# Altium footprint library cftkb.PcbLib: 28 footprints (part 1 of 2)
Each footprint in its own frame and in the unit in brackets; x right, y up, seen from the top. Pads: shape width x height; smd on the part's side, far side on the other; paste and mask are expansions set on the pad; w line width, h text height; cw(c..) or ccw(c..) is an arc to the next point about the centre after c.
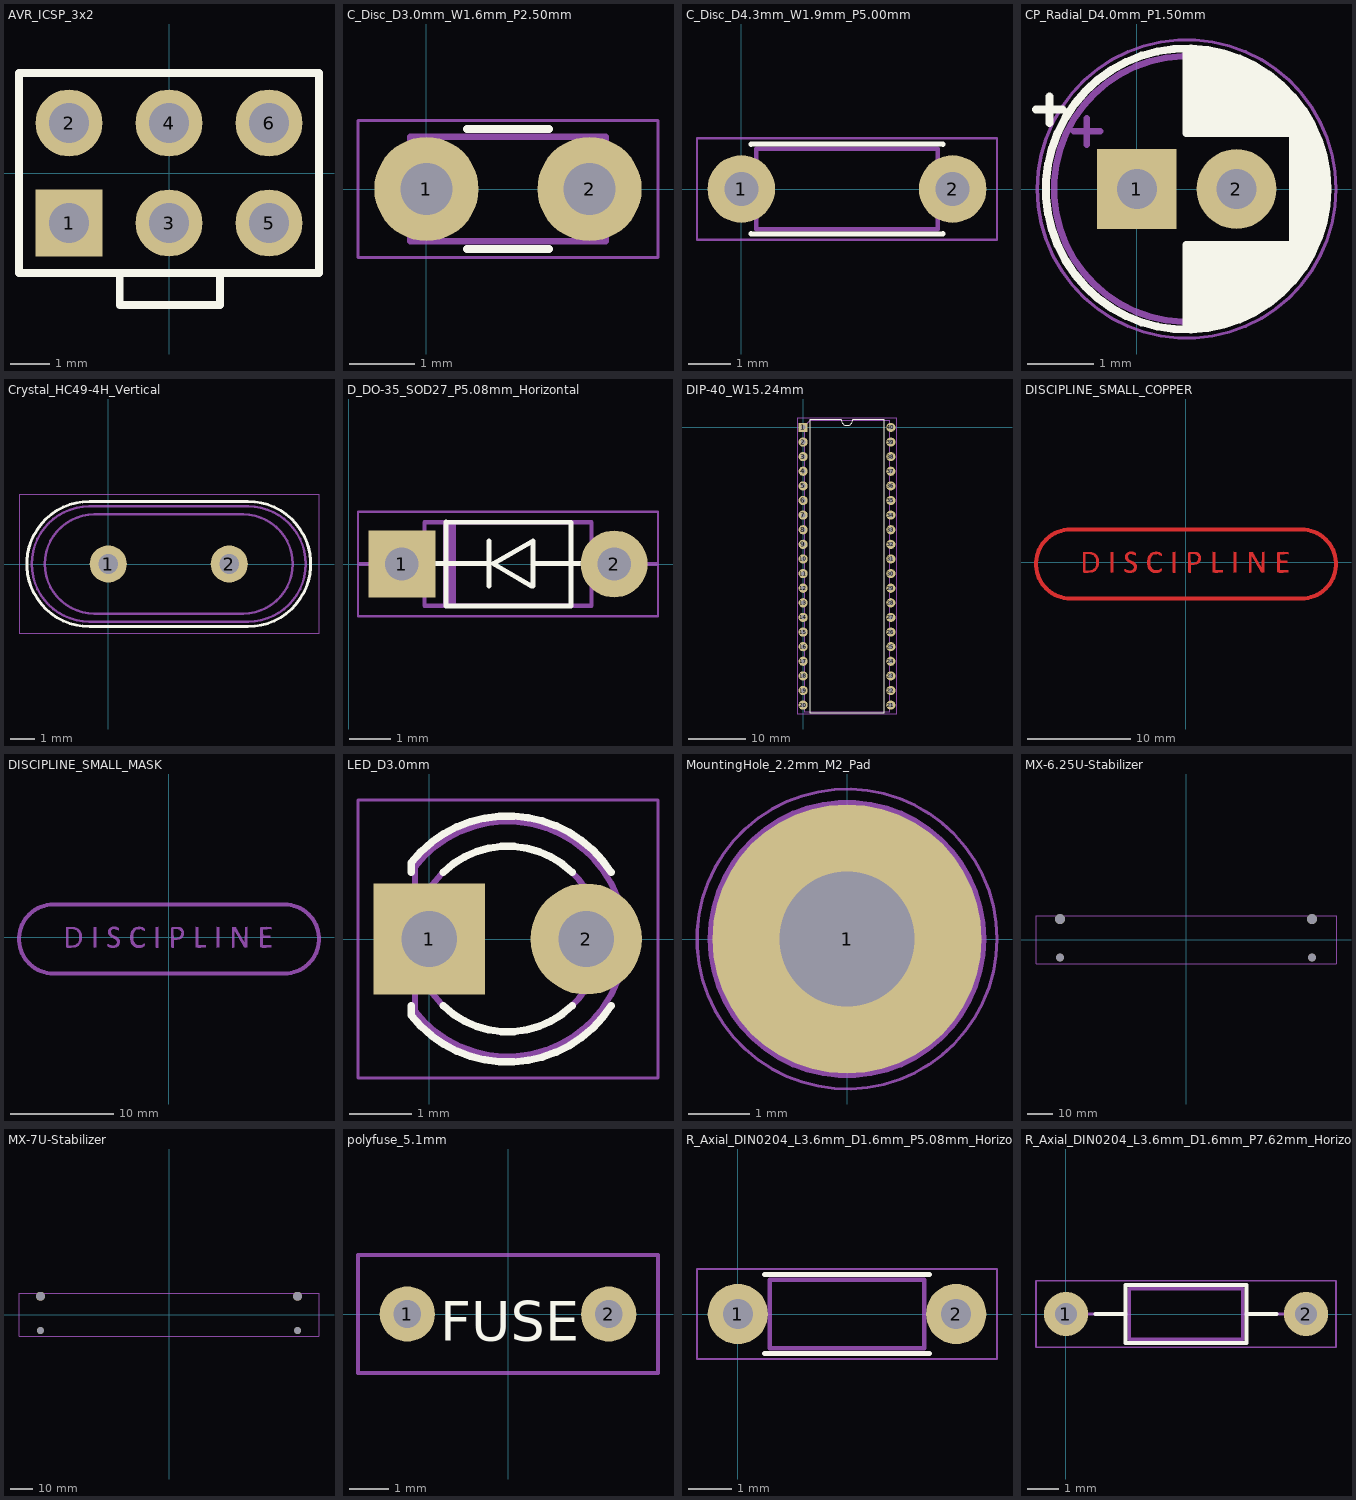
[diagram p0: the footprints below, top view; thin cyan lines are the x and y axes]

## AVR_ICSP_3x2 [mm]
pads (6):
  rect 1.7x1.7 hole 1.016: 1(-2.54,-1.27)
  round 1.7 hole 1.016: 2(-2.54,1.27) 3(0,-1.27) 4(0,1.27) 5(2.54,-1.27) 6(2.54,1.27)
F.SilkS:
  lines w0.2: -1.25,-2.55 -1.25,-3.35 1.3,-3.35 1.3,-2.55
  lines w0.203: -3.81,-2.54 -3.81,2.54 3.81,2.54 3.81,-2.54 -3.81,-2.54

## C_Disc_D3.0mm_W1.6mm_P2.50mm [mm]
pads (2):
  round 1.6 hole 0.8: 1(0,0) 2(2.5,0)
F.SilkS:
  lines w0.12: 0.621,-0.92 1.879,-0.92 ; 0.621,0.92 1.879,0.92
F.CrtYd:
  lines w0.05: -1.05,-1.05 -1.05,1.05 3.55,1.05 3.55,-1.05 -1.05,-1.05
F.Fab:
  lines w0.1: -0.25,-0.8 -0.25,0.8 2.75,0.8 2.75,-0.8 -0.25,-0.8
  text "%R" at 0.63,-0.39 h0.6

## C_Disc_D4.3mm_W1.9mm_P5.00mm [mm]
pads (2):
  round 1.6 hole 0.8: 1(0,0) 2(5,0)
F.SilkS:
  lines w0.12: 0.23,-1.055 0.23,-1.07 4.77,-1.07 4.77,-1.055 ; 0.23,1.055 0.23,1.07 4.77,1.07 4.77,1.055
F.CrtYd:
  lines w0.05: -1.05,-1.2 -1.05,1.2 6.05,1.2 6.05,-1.2 -1.05,-1.2
F.Fab:
  lines w0.1: 0.35,-0.95 0.35,0.95 4.65,0.95 4.65,-0.95 0.35,-0.95
  text "%R" at 1.611,-0.559 h0.86

## CP_Radial_D4.0mm_P1.50mm [mm]
pads (2):
  rect 1.2x1.2 hole 0.6: 1(0,0)
  round 1.2 hole 0.6: 2(1.5,0)
F.SilkS:
  circle w0.12: c0.75,0 r2.12
  lines w0.12: -1.52,1.195 -1.12,1.195 ; -1.32,0.995 -1.32,1.395 ; 0.75,-2.08 0.75,-0.84 ; 0.75,0.84 0.75,2.08 ; 0.79,-2.08 0.79,-0.84 ; 0.79,0.84 0.79,2.08 ; 0.83,-2.079 0.83,-0.84 ; 0.83,0.84 0.83,2.079 ; 0.87,-2.077 0.87,-0.84 ; 0.87,0.84 0.87,2.077 ; 0.91,-2.074 0.91,-0.84 ; 0.91,0.84 0.91,2.074 ; 0.95,-2.071 0.95,-0.84 ; 0.95,0.84 0.95,2.071 ; 0.99,-2.067 0.99,-0.84 ; 0.99,0.84 0.99,2.067 ; 1.03,-2.062 1.03,-0.84 ; 1.03,0.84 1.03,2.062 ; 1.07,-2.056 1.07,-0.84 ; 1.07,0.84 1.07,2.056 ; 1.11,-2.05 1.11,-0.84 ; 1.11,0.84 1.11,2.05 ; 1.15,-2.042 1.15,-0.84 ; 1.15,0.84 1.15,2.042 ; 1.19,-2.034 1.19,-0.84 ; 1.19,0.84 1.19,2.034 ; 1.23,-2.025 1.23,-0.84 ; 1.23,0.84 1.23,2.025 ; 1.27,-2.016 1.27,-0.84 ; 1.27,0.84 1.27,2.016 ; 1.31,-2.005 1.31,-0.84 ; 1.31,0.84 1.31,2.005 ; 1.35,-1.994 1.35,-0.84 ; 1.35,0.84 1.35,1.994 ; 1.39,-1.982 1.39,-0.84 ; 1.39,0.84 1.39,1.982 ; 1.43,-1.968 1.43,-0.84 ; 1.43,0.84 1.43,1.968 ; 1.471,-1.954 1.471,-0.84 ; 1.471,0.84 1.471,1.954 ; 1.511,-1.94 1.511,-0.84 ; 1.511,0.84 1.511,1.94 ; 1.551,-1.924 1.551,-0.84 ; 1.551,0.84 1.551,1.924 ; 1.591,-1.907 1.591,-0.84 ; 1.591,0.84 1.591,1.907 ; 1.631,-1.889 1.631,-0.84 ; 1.631,0.84 1.631,1.889 ; 1.671,-1.87 1.671,-0.84 ; 1.671,0.84 1.671,1.87 ; 1.711,-1.851 1.711,-0.84 ; 1.711,0.84 1.711,1.851 ; 1.751,-1.83 1.751,-0.84 ; 1.751,0.84 1.751,1.83 ; 1.791,-1.808 1.791,-0.84 ; 1.791,0.84 1.791,1.808 ; 1.831,-1.785 1.831,-0.84 ; 1.831,0.84 1.831,1.785 ; 1.871,-1.76 1.871,-0.84 ; 1.871,0.84 1.871,1.76 ; 1.911,-1.735 1.911,-0.84 ; 1.911,0.84 1.911,1.735 ; 1.951,-1.708 1.951,-0.84 ; 1.951,0.84 1.951,1.708 ; 1.991,-1.68 1.991,-0.84 ; 1.991,0.84 1.991,1.68 ; 2.031,-1.65 2.031,-0.84 ; 2.031,0.84 2.031,1.65 ; 2.071,-1.619 2.071,-0.84 ; 2.071,0.84 2.071,1.619 ; 2.111,-1.587 2.111,-0.84 ; 2.111,0.84 2.111,1.587 ; 2.151,-1.552 2.151,-0.84 ; 2.151,0.84 2.151,1.552 ; 2.191,-1.516 2.191,-0.84 ; 2.191,0.84 2.191,1.516 ; 2.231,-1.478 2.231,-0.84 ; 2.231,0.84 2.231,1.478 ; 2.271,-1.438 2.271,-0.84 ; 2.271,0.84 2.271,1.438 ; 2.311,-1.396 2.311,-0.84 ; 2.311,0.84 2.311,1.396 ; 2.351,-1.351 2.351,1.351 ; 2.391,-1.304 2.391,1.304 ; 2.431,-1.254 2.431,1.254 ; 2.471,-1.2 2.471,1.2 ; 2.511,-1.142 2.511,1.142 ; 2.551,-1.08 2.551,1.08 ; 2.591,-1.013 2.591,1.013 ; 2.631,-0.94 2.631,0.94 ; 2.671,-0.859 2.671,0.859 ; 2.711,-0.768 2.711,0.768 ; 2.751,-0.664 2.751,0.664 ; 2.791,-0.537 2.791,0.537 ; 2.831,-0.37 2.831,0.37
F.CrtYd:
  circle w0.05: c0.75,0 r2.25
F.Fab:
  circle w0.1: c0.75,0 r2
  lines w0.1: -0.953,0.867 -0.553,0.867 ; -0.753,0.667 -0.753,1.068
  text "%R" at -0.077,-0.52 h0.8

## Crystal_HC49-4H_Vertical [mm]
pads (2):
  round 1.5 hole 0.8: 1(0,0) 2(4.88,0)
F.SilkS:
  lines w0.12: -0.76,-2.525 cw(c-0.76,0) -0.76,2.525 5.64,2.525 cw(c5.64,0) 5.64,-2.525 -0.76,-2.525
F.CrtYd:
  lines w0.05: -3.6,-2.8 8.5,-2.8 8.5,2.8 -3.6,2.8 -3.6,-2.8
F.Fab:
  lines w0.1: -0.76,-2.325 cw(c-0.76,0) -0.76,2.325 5.64,2.325 cw(c5.64,0) 5.64,-2.325 -0.76,-2.325 ; -0.56,-2 cw(c-0.56,0) -0.56,2 5.44,2 cw(c5.44,0) 5.44,-2 -0.56,-2
  text "%R" at 1.407,-0.65 h1

## D_DO-35_SOD27_P5.08mm_Horizontal [mm]
pads (2):
  rect 1.6x1.6 hole 0.8: 1(1.27,0)
  rrect100% 1.6x1.6 hole 0.8: 2(6.35,0)
F.SilkS:
  lines w0.12: 2.07,0.01 3.35,0.01 ; 2.33,-1 2.33,1 5.32,0.99 5.32,-1 ; 2.34,-1 5.31,-1 ; 3.36,-0.53 3.36,0.55 ; 3.46,0.01 4.41,0.55 4.41,-0.53 ; 3.47,0 4.38,-0.53 ; 4.41,0.01 5.53,0.01
F.CrtYd:
  lines w0.05: 0.22,-1.25 0.22,1.25 7.4,1.25 7.4,-1.25 0.22,-1.25
F.Fab:
  lines w0.1: 0.25,0 1.81,0 ; 2.31,-1 2.31,1 ; 2.41,-1 2.41,1 ; 2.51,-1 2.51,1 ; 5.81,0 7.37,0 ; 1.81,-1 1.81,1 5.81,1 5.81,-1 1.81,-1
  text "%R" at 3.283,-0.52 h0.8
  text "K" at -0.483,1.15 h1
Cmts.User:
  text "K" at -0.483,1.15 h1
3D body "User Library-DO-35G-30 v1-scaled2.step": height 1.37, standoff -1.2, extent 1.087,-0.606 6.58,0.606

## DIP-40_W15.24mm [mm]
pads (40):
  rect 1.6x1.6 hole 0.8: 1(0,0)
  rrect100% 1.6x1.6 hole 0.8: 2(0,-2.54) 3(0,-5.08) 4(0,-7.62) 5(0,-10.16) 6(0,-12.7) 7(0,-15.24) 8(0,-17.78) 9(0,-20.32) 10(0,-22.86) 11(0,-25.4) 12(0,-27.94) 13(0,-30.48) 14(0,-33.02) 15(0,-35.56) 16(0,-38.1) 17(0,-40.64) 18(0,-43.18) 19(0,-45.72) 20(0,-48.26) 21(15.24,-48.26) 22(15.24,-45.72) 23(15.24,-43.18) 24(15.24,-40.64) 25(15.24,-38.1) 26(15.24,-35.56) 27(15.24,-33.02) 28(15.24,-30.48) 29(15.24,-27.94) 30(15.24,-25.4) 31(15.24,-22.86) 32(15.24,-20.32) 33(15.24,-17.78) 34(15.24,-15.24) 35(15.24,-12.7) 36(15.24,-10.16) 37(15.24,-7.62) 38(15.24,-5.08) 39(15.24,-2.54) 40(15.24,0)
F.SilkS:
  lines w0.12: 1.16,-49.59 14.08,-49.59 14.08,1.33 8.62,1.33 cw(c7.62,1.33) 6.62,1.33 1.16,1.33 1.16,-49.59
F.CrtYd:
  lines w0.05: -1.05,-49.8 16.3,-49.8 16.3,1.55 -1.05,1.55 -1.05,-49.8
F.Fab:
  lines w0.1: 0.255,-49.53 0.255,0.27 1.255,1.27 14.985,1.27 14.985,-49.53 0.255,-49.53
  text "%R" at 6.587,-24.78 h1

## DISCIPLINE_SMALL_COPPER [mm]
F.Cu:
  region: -5.109,0.984 -4.986,0.95 -4.893,0.906 -4.851,0.861 -4.833,0.776 -4.84,0.703 -4.86,0.672 -4.903,0.675 -4.98,0.703 -5.014,0.719 -5.171,0.776 -5.321,0.787 -5.45,0.755 -5.549,0.686 -5.606,0.582 -5.615,0.506 -5.592,0.393 -5.518,0.294 -5.388,0.203 -5.269,0.144 -5.042,0.028 -4.878,-0.091 -4.795,-0.186 -4.753,-0.294 -4.735,-0.435 -4.743,-0.581 -4.776,-0.704 -4.782,-0.716 -4.891,-0.86 -5.045,-0.964 -5.232,-1.026 -5.441,-1.041 -5.632,-1.014 -5.748,-0.976 -5.85,-0.924 -5.914,-0.872 -5.917,-0.868 -5.938,-0.803 -5.938,-0.727 -5.916,-0.674 -5.911,-0.671 -5.867,-0.673 -5.788,-0.702 -5.745,-0.723 -5.57,-0.79 -5.403,-0.812 -5.252,-0.792 -5.127,-0.734 -5.039,-0.64 -4.997,-0.514 -4.995,-0.476 -5.017,-0.387 -5.085,-0.298 -5.204,-0.204 -5.381,-0.1 -5.423,-0.078 -5.607,0.026 -5.736,0.123 -5.819,0.223 -5.863,0.337 -5.877,0.475 -5.877,0.485 -5.851,0.672 -5.774,0.819 -5.647,0.924 -5.47,0.988 -5.374,1.002 -5.244,1.003
  region: -2.759,0.998 -2.546,0.944 -2.487,0.917 -2.383,0.85 -2.331,0.774 -2.318,0.685 -2.333,0.622 -2.381,0.608 -2.466,0.643 -2.516,0.674 -2.654,0.743 -2.815,0.773 -2.835,0.775 -3.024,0.762 -3.178,0.696 -3.301,0.573 -3.361,0.474 -3.399,0.392 -3.424,0.314 -3.438,0.222 -3.443,0.097 -3.444,-0.032 -3.442,-0.196 -3.434,-0.312 -3.418,-0.399 -3.391,-0.473 -3.369,-0.515 -3.259,-0.659 -3.113,-0.756 -2.943,-0.804 -2.762,-0.801 -2.582,-0.745 -2.48,-0.684 -2.408,-0.64 -2.356,-0.62 -2.354,-0.62 -2.323,-0.646 -2.318,-0.709 -2.334,-0.787 -2.371,-0.859 -2.39,-0.881 -2.511,-0.957 -2.674,-1.01 -2.86,-1.036 -3.049,-1.032 -3.155,-1.014 -3.343,-0.937 -3.499,-0.808 -3.62,-0.632 -3.702,-0.416 -3.744,-0.166 -3.743,0.082 -3.701,0.334 -3.62,0.556 -3.504,0.737 -3.391,0.844 -3.2,0.947 -2.983,0.999
  region: -9.323,0.971 -9.11,0.947 -8.933,0.898 -8.78,0.822 -8.773,0.817 -8.621,0.684 -8.507,0.504 -8.434,0.288 -8.406,0.044 -8.424,-0.216 -8.486,-0.464 -8.588,-0.662 -8.731,-0.816 -8.913,-0.925 -9.004,-0.954 -9.132,-0.978 -9.283,-0.997 -9.444,-1.009 -9.599,-1.015 -9.737,-1.013 -9.842,-1.002 -9.901,-0.983 -9.909,-0.975 -9.913,-0.932 -9.916,-0.832 -9.918,-0.684 -9.919,-0.497 -9.919,-0.279 -9.918,-0.039 -9.917,0.017 -9.911,0.751 -9.909,0.963 -9.585,0.973 hole: -9.418,0.751 -9.664,0.751 -9.664,-0.784 -9.409,-0.784 -9.252,-0.778 -9.135,-0.759 -9.032,-0.721 -9.01,-0.71 -8.872,-0.612 -8.775,-0.476 -8.715,-0.294 -8.691,-0.1 -8.692,0.131 -8.728,0.317 -8.8,0.47 -8.857,0.544 -8.963,0.644 -9.082,0.708 -9.231,0.742
  region: -7.036,-0.996 -7.142,-1.006 -7.228,-1.001 -7.265,-0.973 -7.269,-0.93 -7.272,-0.831 -7.274,-0.684 -7.275,-0.497 -7.275,-0.279 -7.273,-0.039 -7.273,0.017 -7.264,0.963 -7.036,0.963
  region: -1.012,-1.012 -1.127,-1.012 -1.208,-1.002 -1.256,-0.976 -1.258,-0.971 -1.262,-0.929 -1.265,-0.83 -1.267,-0.683 -1.268,-0.497 -1.268,-0.279 -1.266,-0.04 -1.266,0.017 -1.257,0.963 -1.135,0.973 -1.012,0.983
  region: 0.696,0.973 0.866,0.965 0.987,0.954 1.074,0.936 1.142,0.91 1.189,0.883 1.316,0.783 1.394,0.663 1.431,0.508 1.436,0.392 1.412,0.18 1.341,0.012 1.221,-0.115 1.051,-0.201 0.829,-0.248 0.745,-0.255 0.49,-0.27 0.49,-1.012 0.381,-1.012 0.3,-1.006 0.252,-0.992 0.25,-0.99 0.245,-0.953 0.24,-0.859 0.235,-0.717 0.232,-0.535 0.23,-0.32 0.229,-0.083 0.229,-0.031 0.229,0.247 0.231,0.466 0.234,0.635 0.238,0.751 0.238,0.759 0.245,0.845 0.255,0.902 0.267,0.934 0.278,0.947 0.326,0.966 0.418,0.976 0.562,0.977 hole: 0.722,0.751 0.49,0.751 0.49,0.365 0.491,0.212 0.496,0.084 0.503,-0.006 0.511,-0.044 0.563,-0.06 0.657,-0.064 0.769,-0.055 0.879,-0.034 0.884,-0.033 1.023,0.032 1.114,0.137 1.162,0.288 1.168,0.342 1.174,0.449 1.162,0.518 1.124,0.578 1.068,0.636 1.004,0.696 0.948,0.731 0.878,0.746 0.772,0.751
  region: 2.702,0.973 2.824,0.963 2.841,-0.781 3.575,-0.8 3.575,-0.996 3.1,-1.005 2.93,-1.006 2.783,-1.005 2.673,-1.001 2.611,-0.994 2.602,-0.991 2.596,-0.954 2.591,-0.86 2.586,-0.717 2.583,-0.533 2.58,-0.317 2.579,-0.077 2.579,0.007 2.579,0.983
  region: 4.726,0.973 4.848,0.963 4.848,-0.996 4.603,-1.016 4.603,0.983
  region: 7.567,-0.006 7.558,-0.996 7.444,-1.005 7.35,-1 7.278,-0.975 7.275,-0.973 7.245,-0.934 7.189,-0.846 7.11,-0.715 7.015,-0.551 6.906,-0.361 6.789,-0.153 6.777,-0.131 6.335,0.668 6.326,-0.164 6.317,-0.996 6.211,-1.006 6.104,-1.016 6.113,-0.027 6.121,0.963 6.273,0.973 6.374,0.973 6.436,0.953 6.485,0.904 6.517,0.854 6.575,0.755 6.654,0.617 6.749,0.448 6.855,0.256 6.938,0.106 7.329,-0.612 7.362,0.963 7.469,0.973 7.575,0.984
  region: 9.582,0.979 9.717,0.976 9.808,0.971 9.862,0.961 9.892,0.945 9.906,0.923 9.907,0.919 9.914,0.84 9.906,0.804 9.889,0.782 9.85,0.766 9.78,0.757 9.667,0.752 9.5,0.751 9.479,0.751 9.074,0.751 9.083,0.449 9.092,0.147 9.443,0.138 9.794,0.128 9.794,-0.065 9.076,-0.065 9.076,-0.782 9.909,-0.8 9.909,-0.996 9.402,-1.005 9.186,-1.007 9.03,-1.004 8.926,-0.996 8.868,-0.982 8.855,-0.974 8.843,-0.929 8.832,-0.83 8.824,-0.686 8.818,-0.508 8.814,-0.306 8.812,-0.09 8.812,0.13 8.815,0.342 8.819,0.538 8.826,0.706 8.835,0.836 8.846,0.918 8.854,0.94 8.9,0.958 9.001,0.97 9.16,0.977 9.381,0.979 9.391,0.979
  lines w0.4: 11.16,-3.52 ccw(c11.16,-0.18) 11.16,3.16 ; 11.16,-3.52 -11.14,-3.52 cw(c-11.14,-0.18) -11.14,3.16 11.16,3.16 ; 11.16,-3.52 ccw(c11.16,-0.18) 11.16,3.16

## DISCIPLINE_SMALL_MASK [mm]
F.Mask:
  drawing of 14 lines, arcs and shapes, not listed

## LED_D3.0mm [mm]
pads (2):
  rect 1.8x1.8 hole 0.9: 1(0,0)
  round 1.8 hole 0.9: 2(2.54,0)
F.SilkS:
  lines w0.12: -0.29,-1.08 -0.29,-1.236 ccw(c1.27,0) 2.942,-1.079 ; -0.29,1.08 -0.29,1.236 cw(c1.27,0) 2.942,1.079 ; 0.229,-1.08 ccw(c1.27,0) 2.311,-1.08 ; 0.229,1.08 cw(c1.27,0) 2.311,1.08
F.CrtYd:
  lines w0.05: -1.15,-2.25 -1.15,2.25 3.7,2.25 3.7,-2.25 -1.15,-2.25
F.Fab:
  circle w0.1: c1.27,0 r1.5
  lines w0.1: -0.231,-1.165 ccw(c1.27,0) -0.23,1.166 -0.23,-1.166

## MountingHole_2.2mm_M2_Pad [mm]
pads (1):
  round 4.4 hole 2.2: 1(0,0)
F.CrtYd:
  circle w0.05: c0,0 r2.45
F.Fab:
  text "%R" at -0.733,-0.65 h1
Cmts.User:
  circle w0.15: c0,0 r2.2

## MX-6.25U-Stabilizer [mil]
pads (4):
  round 120 hole 120: Un1(-1968.5,-275) Un2(1968.5,-275)
  round 157 hole 157: Un3(-1968.5,325) Un4(1968.5,325)
Dwgs.User:
  lines w5.91: -2343.75,-375 2343.75,-375 2343.75,375 -2343.75,375 -2343.75,-375

## MX-7U-Stabilizer [mil]
pads (4):
  round 120 hole 120: Un1(-2250,-275) Un2(2250,-275)
  round 157 hole 157: Un3(-2250,325) Un4(2250,325)
Dwgs.User:
  lines w5.91: -2625,-375 2625,-375 2625,375 -2625,375 -2625,-375

## polyfuse_5.1mm [mm]
pads (2):
  round 1.4 hole 0.7: 1(-2.55,0) 2(2.55,0)
F.SilkS:
  text "FUSE" at -1.723,-0.68 h1
F.CrtYd:
  lines w0.1: -3.8,-1.5 -3.8,1.5 3.8,1.5 3.8,-1.5 -3.8,-1.5

## R_Axial_DIN0204_L3.6mm_D1.6mm_P5.08mm_Horizontal [mm]
pads (2):
  round 1.4 hole 0.7: 1(0,0)
  rrect100% 1.4x1.4 hole 0.7: 2(5.08,0)
F.SilkS:
  lines w0.12: 0.62,-0.92 4.46,-0.92 ; 0.62,0.92 4.46,0.92
F.CrtYd:
  lines w0.05: -0.95,-1.05 6.03,-1.05 6.03,1.05 -0.95,1.05 -0.95,-1.05
F.Fab:
  lines w0.1: 0,0 0.74,0 ; 4.34,0 5.08,0 ; 0.74,-0.8 4.34,-0.8 4.34,0.8 0.74,0.8 0.74,-0.8
  text "%R" at 1.796,-0.468 h0.72

## R_Axial_DIN0204_L3.6mm_D1.6mm_P7.62mm_Horizontal [mm]
pads (2):
  round 1.4 hole 0.7: 1(0,0)
  rrect100% 1.4x1.4 hole 0.7: 2(7.62,0)
F.SilkS:
  lines w0.12: 0.94,0 1.89,0 ; 5.73,0 6.68,0 ; 1.89,-0.92 1.89,0.92 5.73,0.92 5.73,-0.92 1.89,-0.92
F.CrtYd:
  lines w0.05: -0.95,-1.05 -0.95,1.05 8.57,1.05 8.57,-1.05 -0.95,-1.05
F.Fab:
  lines w0.1: 0,0 2.01,0 ; 5.61,0 7.62,0 ; 2.01,-0.8 2.01,0.8 5.61,0.8 5.61,-0.8 2.01,-0.8
  text "%R" at 3.066,-0.468 h0.72